# Altium schematic symbol library STMicroelectronics Diode Power Schottky Low VF.SchLib: 1 symbol
Pins are listed as number, name and electrical type; pins without a type are passive.

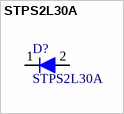
[diagram p0: symbol STPS2L30A]

## STPS2L30A
designator D?
Diode Schottky 30V 2A Surface Mount SMA; Manufacturer: STMicroelectronics; PartNumber: STPS2L30A; Package: DO-214AC, SMA; Supplier 1: Digi-Key; Supplier Part Number 1: 497-3759-2-ND; PackageDescription: Molded Diode, 2-Leads, Body 4.27x2.57mm; ComponentLink1Description: Digi-Key; ComponentLink1URL: https://www.digikey.com/products/en?keywords=497-3759-2-ND; Publisher: Wentao SUN; Published: 18-Apr-2019
footprint DIOM4326X25M (Molded Diode, 2-Leads, Body 4.27x2.57mm, IPC Low Density)
footprint DIOM4326X25L (Molded Diode, 2-Leads, Body 4.27x2.57mm, IPC High Density)
footprint DIOM4326X25N (Molded Diode, 2-Leads, Body 4.27x2.57mm, IPC Medium Density)
pins: 1 K, 2 A